# Altium footprint library WE-FLEX+.PcbLib: 3 footprints
Each footprint in its own frame and in the unit in brackets; x right, y up, seen from the top. Pads: shape width x height; smd on the part's side, far side on the other; paste and mask are expansions set on the pad; w line width, h text height; cw(c..) or ccw(c..) is an arc to the next point about the centre after c.
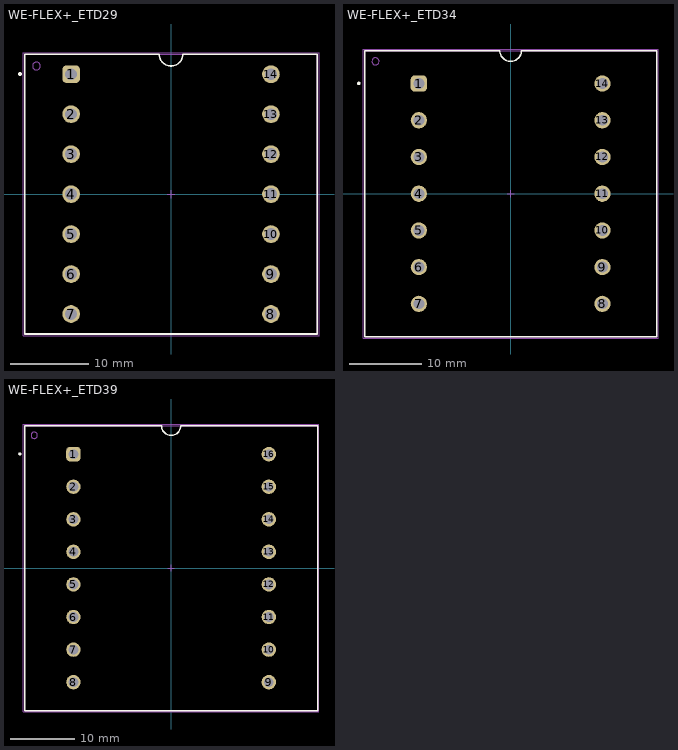
[diagram p0: the footprints below, top view; thin cyan lines are the x and y axes]

## WE-FLEX+_ETD29 [mm] "Flexible Transformer for DC/DC Converter, size ETD29"
height 31.75
pads (14):
  rrect50% 2.25x2.25 hole 1.5: 1(-12.7,15.24)
  round 2.25 hole 1.5: 2(-12.7,10.16) 3(-12.7,5.08) 4(-12.7,0) 5(-12.7,-5.08) 6(-12.7,-10.16) 7(-12.7,-15.24) 8(12.7,-15.24) 9(12.7,-10.16) 10(12.7,-5.08) 11(12.7,0) 12(12.7,5.08) 13(12.7,10.16) 14(12.7,15.24)
Top Overlay:
  circle w0.25: c-19.2,15.25 r0.125
  lines w0.2: -18.605,-17.78 -18.605,17.78 -1.5,17.78 ccw(c0,17.78) 1.5,17.78 18.605,17.78 18.605,-17.78 -18.605,-17.78
Top Designator:
  text ".Designator" at -7.498,-0.5 h1.5
Top Component Outline:
  circle w0.1: c-17.105,16.28 r0.5
  lines w0.1: -18.605,-17.78 18.605,-17.78 18.605,17.78 -18.605,17.78 -18.605,-17.78
Top 3D Body:
  circle w0.1: c-17.105,16.28 r0.5
  lines w0.1: -18.605,-17.78 -18.605,17.78 18.605,17.78 18.605,-17.78 -18.605,-17.78
Top Courtyard:
  lines w0.05: -18.805,-17.98 -18.805,17.98 18.805,17.98 18.805,-17.98 -18.805,-17.98
Top Component Center:
  lines w0.05: -0.5,0 0.5,0 ; 0,-0.5 0,0.5
3D body "WE-FLEX-Plus-ETD29_rev1.stp": height 28.37, standoff -4.45, extent -18.5,-17.4 18.5,17.4

## WE-FLEX+_ETD34 [mm] "Flexible Transformer for DC/DC Converter, size ETD34"
height 31.49
pads (14):
  rrect50% 2.25x2.25 hole 1.5: 1(-12.7,15.24)
  round 2.25 hole 1.5: 2(-12.7,10.16) 3(-12.7,5.08) 4(-12.7,0) 5(-12.7,-5.08) 6(-12.7,-10.16) 7(-12.7,-15.24) 8(12.7,-15.24) 9(12.7,-10.16) 10(12.7,-5.08) 11(12.7,0) 12(12.7,5.08) 13(12.7,10.16) 14(12.7,15.24)
Top Overlay:
  circle w0.25: c-20.995,15.26 r0.125
  lines w0.2: -20.195,-19.81 20.195,-19.81 20.195,19.81 1.5,19.81 cw(c0,19.81) -1.5,19.81 -20.195,19.81 -20.195,-19.81
Top Designator:
  text ".Designator" at -7.498,-0.5 h1.5
Top Component Outline:
  circle w0.1: c-18.695,18.31 r0.5
  lines w0.1: -20.195,-19.81 20.195,-19.81 20.195,19.81 -20.195,19.81 -20.195,-19.81
Top 3D Body:
  circle w0.1: c-18.695,18.31 r0.5
  lines w0.1: -20.195,-19.81 -20.195,19.81 20.195,19.81 20.195,-19.81 -20.195,-19.81
Top Courtyard:
  lines w0.05: -20.395,-20.01 -20.395,20.01 20.395,20.01 20.395,-20.01 -20.395,-20.01
Top Component Center:
  lines w0.05: -0.5,0 0.5,0 ; 0,-0.5 0,0.5
3D body "STEP-WE-FLEX-PLUS-ETD34-rev1.stp": height 29.59, standoff -4.45, extent -20,-19.25 20,19.25

## WE-FLEX+_ETD39 [mm] "Flexible Transformer for DC/DC Converter, size ETD39"
height 33.78
pads (16):
  rrect50% 2.25x2.25 hole 1.5: 1(-15.24,17.78)
  round 2.25 hole 1.5: 2(-15.24,12.7) 3(-15.24,7.62) 4(-15.24,2.54) 5(-15.24,-2.54) 6(-15.24,-7.62) 7(-15.24,-12.7) 8(-15.24,-17.78) 9(15.24,-17.78) 10(15.24,-12.7) 11(15.24,-7.62) 12(15.24,-2.54) 13(15.24,2.54) 14(15.24,7.62) 15(15.24,12.7) 16(15.24,17.78)
Top Overlay:
  circle w0.25: c-23.61,17.825 r0.125
  lines w0.2: -22.86,-22.225 -22.86,22.225 -1.5,22.225 ccw(c0,22.225) 1.5,22.225 22.86,22.225 22.86,-22.225 -22.86,-22.225
Top Designator:
  text ".Designator" at -7.498,-0.5 h1.5
Top Component Outline:
  circle w0.1: c-21.36,20.725 r0.5
  lines w0.1: -22.86,-22.225 22.86,-22.225 22.86,22.225 -22.86,22.225 -22.86,-22.225
Top 3D Body:
  circle w0.1: c-21.36,20.725 r0.5
  lines w0.1: -22.86,-22.225 -22.86,22.225 22.86,22.225 22.86,-22.225 -22.86,-22.225
Top Courtyard:
  lines w0.05: -23.06,-22.425 23.06,-22.425 23.06,22.425 -23.06,22.425 -23.06,-22.425
Top Component Center:
  lines w0.05: -0.5,0 0.5,0 ; 0,-0.5 0,0.5
3D body "749197301.stp": height 33.33, standoff -4.17, extent -22.5,-21.75 22.5,21.75